# Altium schematic symbol library TMC-ICs.SchLib: 2 symbols
Pins are listed as number, name and electrical type; pins without a type are passive.

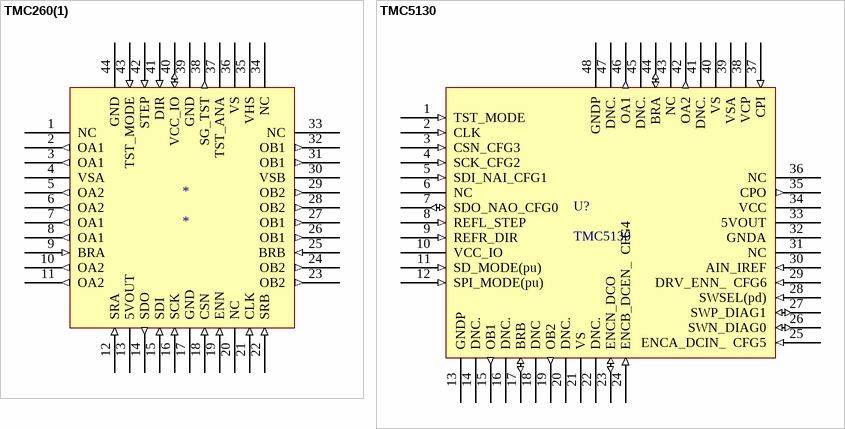
[diagram p0: symbols TMC260(1) to TMC5130]

## TMC260(1)
designator *
footprint PQFP44
pins: 1 NC, 2 OA1 (out), 3 OA1 (out), 4 VSA (power), 5 OA2 (out), 6 OA2 (out), 7 OA1 (out), 8 OA1 (out), 9 BRA (in), 10 OA2 (out), 11 OA2 (out), 12 SRA (in), 13 5VOUT (power), 14 SDO (out), 15 SDI (in), 16 SCK (in), 17 GND (power), 18 CSN (in), 19 ENN (in), 20 NC, 21 CLK (in), 22 SRB (in), 23 OB2 (out), 24 OB2 (out), 25 BRB (in), 26 OB1 (out), 27 OB1 (out), 28 OB2 (out), 29 OB2 (out), 30 VSB (power), 31 OB1 (out), 32 OB1 (out), 33 NC, 34 NC, 35 VHS (power), 36 VS (power), 37 TST_ANA, 38 SG_TST (out), 39 GND (power), 40 VCC_IO (io), 41 DIR (in), 42 STEP (in), 43 TST_MODE (in), 44 GND (power)

## TMC5130
designator U?
footprint TQFP48
pins: 1 TST_MODE (in), 2 CLK (in), 3 CSN_CFG3 (in), 4 SCK_CFG2 (in), 5 SDI_NAI_CFG1 (in), 6 NC, 7 SDO_NAO_CFG0 (io), 8 REFL_STEP (in), 9 REFR_DIR (in), 10 VCC_IO (power), 11 SD_MODE(pu) (in), 12 SPI_MODE(pu) (in), 13 GNDP (power), 14 DNC., 15 OB1 (out), 16 DNC., 17 BRB (io), 18 DNC, 19 OB2 (out), 20 DNC., 21 VS (power), 22 DNC., 23 ENCN_DCO (io), 24 ENCB_DCEN_  CFG4 (in), 25 ENCA_DCIN_  CFG5 (in), 26 SWN_DIAG0 (io), 27 SWP_DIAG1 (io), 28 SWSEL(pd) (in), 29 DRV_ENN_  CFG6 (in), 30 AIN_IREF (in), 31 NC, 32 GNDA (power), 33 5VOUT (power), 34 VCC (power), 35 CPO (out), 36 NC, 37 CPI (in), 38 VCP (power), 39 VSA (power), 40 VS (power), 41 DNC., 42 OA2 (out), 43 NC, 44 BRA (io), 45 DNC., 46 OA1 (out), 47 DNC., 48 GNDP (power)